# Altium schematic symbol library WE-FB_EP13_SCH1.SchLib: 1 symbol
Pins are listed as number, name and electrical type; pins without a type are passive.

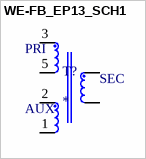
[diagram p0: symbol WE-FB_EP13_SCH1]

## WE-FB_EP13_SCH1
designator T?
1.5:1 Surface Mount Flyback Transformer, 9ÂµH, 0.034O ¦ Wurth Electronics 750311624; MF: WÃ¼rth Elektronik; SnapEDA_Link: https://www.snapeda.com/parts/750311624/W%25C3%25BCrth+Elektronik+Midcom/view-part/?ref=snap; Package: None; Value: *; MP: 750311624; Check_prices: https://www.snapeda.com/parts/750311624/W%25C3%25BCrth+Elektronik+Midcom/view-part/?ref=eda
footprint WE-FB_EP13_P16.36
pins: 1 4, 2 3, 3 1, 5 2, 6, 7 6, 9 5, 10 5
text: PRI; SEC; AUX